# EAGLE library part ICHIGOJAM_T (library FaBo-Boards)
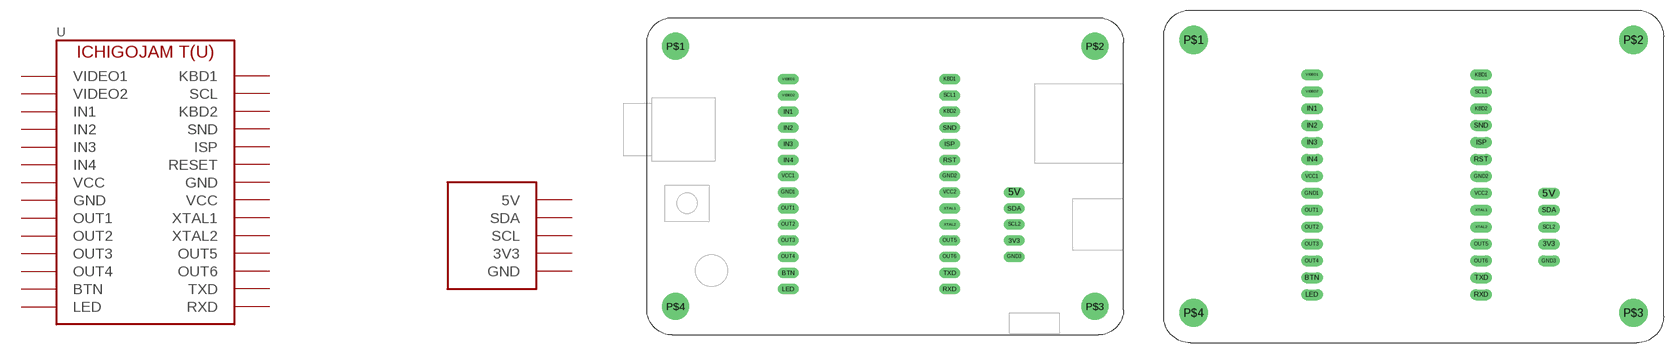
[diagram p7: symbol with the pads of ICHIGOJAM_T; footprints ICHIGOJAM_T, ICHIGOJAM_T_NOLABEL]

Designator prefix U

## ICHIGOJAM_T  [ICHIGOJAM_T]
3V3  3V3
5V  5V
BTN  BTN
GND1  GND
GND2  GND
GND3  GND
IN1  IN1
IN2  IN2
IN3  IN3
IN4  IN4
ISP  ISP
KBD1  KBD1
KBD2  KBD2
LED  LED
OUT1  OUT1
OUT2  OUT2
OUT3  OUT3
OUT4  OUT4
OUT5  OUT5
OUT6  OUT6
RST  RESET
RXD  RXD
SCL1  SCL
SCL2  SCL
SDA  SDA
SND  SND
TXD  TXD
VCC1  VCC
VCC2  VCC
VIDEO1  VIDEO1
VIDEO2  VIDEO2
XTAL1  XTAL1
XTAL2  XTAL2

## ICHIGOJAM_T-NOLABEL  [ICHIGOJAM_T_NOLABEL]
Pads as for ICHIGOJAM_T

## Footprint ICHIGOJAM_T (pad centres in mm)
drill 1.1 long: 3V3 57.81,14.86; 5V 57.81,22.48; BTN 22.25,9.78; GND1 22.25,22.48; GND2 47.65,25.02; GND3 57.81,12.32; IN1 22.25,35.18; IN2 22.25,32.64; IN3 22.25,30.1; IN4 22.25,27.56; ISP 47.65,30.1; KBD1 47.65,40.26; KBD2 47.65,35.18; LED 22.25,7.24; OUT1 22.25,19.94; OUT2 22.25,17.4; OUT3 22.25,14.86; OUT4 22.25,12.32; OUT5 47.65,14.86; OUT6 47.65,12.32; RST 47.65,27.56; RXD 47.65,7.24; SCL1 47.65,37.72; SCL2 57.81,17.4; SDA 57.81,19.94; SND 47.65,32.64; TXD 47.65,9.78; VCC1 22.25,25.02; VCC2 47.65,22.48; VIDEO1 22.25,40.26; VIDEO2 22.25,37.72; XTAL1 47.65,19.94; XTAL2 47.65,17.4
drill 3.2: P$1 4.5,45.5; P$2 70.5,45.5; P$3 70.5,4.5; P$4 4.5,4.5

## Footprint ICHIGOJAM_T_NOLABEL (pad centres in mm)
drill 1.1 long: 3V3 57.81,14.86; 5V 57.81,22.48; BTN 22.25,9.78; GND1 22.25,22.48; GND2 47.65,25.02; GND3 57.81,12.32; IN1 22.25,35.18; IN2 22.25,32.64; IN3 22.25,30.1; IN4 22.25,27.56; ISP 47.65,30.1; KBD1 47.65,40.26; KBD2 47.65,35.18; LED 22.25,7.24; OUT1 22.25,19.94; OUT2 22.25,17.4; OUT3 22.25,14.86; OUT4 22.25,12.32; OUT5 47.65,14.86; OUT6 47.65,12.32; RST 47.65,27.56; RXD 47.65,7.24; SCL1 47.65,37.72; SCL2 57.81,17.4; SDA 57.81,19.94; SND 47.65,32.64; TXD 47.65,9.78; VCC1 22.25,25.02; VCC2 47.65,22.48; VIDEO1 22.25,40.26; VIDEO2 22.25,37.72; XTAL1 47.65,19.94; XTAL2 47.65,17.4
drill 3.2: P$1 4.5,45.5; P$2 70.5,45.5; P$3 70.5,4.5; P$4 4.5,4.5